# EAGLE library part MLX90393 (library lowfieldmri)
Melexis MLX90393 3-axis magnetometer
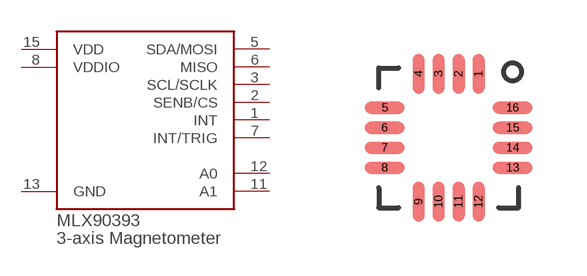
[diagram p9: symbol with the pads of 16-QFN; footprint 16-QFN]

Designator prefix -

## MLX90393  [16-QFN]
1  INT
2  SENB/CS
3  SCL/SCLK
5  SDA/MOSI
6  MISO
7  INT/TRIG
8  VDDIO
11  A1
12  A0
13  GND
15  VDD

## Footprint 16-QFN (pad centres in mm)
smd 0.3 x 1: 1 0.75,1.6; 2 0.25,1.6; 3 -0.25,1.6; 4 -0.75,1.6; 9 -0.75,-1.6; 10 -0.25,-1.6; 11 0.25,-1.6; 12 0.75,-1.6
smd 1 x 0.3: 5 -1.6,0.75; 6 -1.6,0.25; 7 -1.6,-0.25; 8 -1.6,-0.75; 13 1.6,-0.75; 14 1.6,-0.25; 15 1.6,0.25; 16 1.6,0.75